# EAGLE library part TS-8 (library 0-local)
8 position screw terminal block
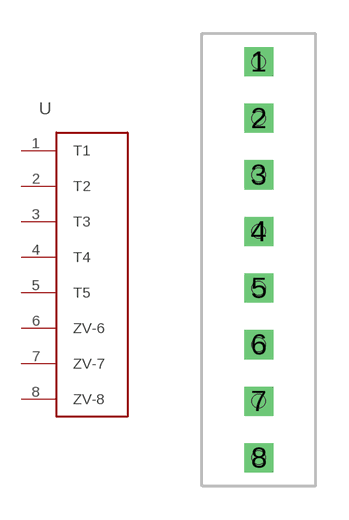
[diagram p1: symbol with the pads of TSTRIP; footprint TSTRIP]

Designator prefix -

## TS-8  [TSTRIP]
1  T1
2  T2
3  T3
4  T4
5  T5
6  ZV-6
7  ZV-7
8  ZV-8

## Footprint TSTRIP (pad centres in mm)
8 position screw terminal block
drill 0.8 square: 1 0,7.62; 2 0,5.08; 3 0,2.54; 4 0,0; 5 0,-2.54; 6 0,-5.08; 7 0,-7.62; 8 0,-10.16
hole 0.6 at 0,7.62
hole 0.6 at 0,5.08
hole 0.6 at 0,2.54
hole 0.6 at 0,0
hole 0.6 at 0,-2.54
hole 0.6 at 0,-5.08
hole 0.6 at 0,-7.62
hole 0.6 at 0,-10.16